# Altium integrated library coilgun.IntLib: 8 symbols
Pins are listed as number, name and electrical type; pins without a type are passive.

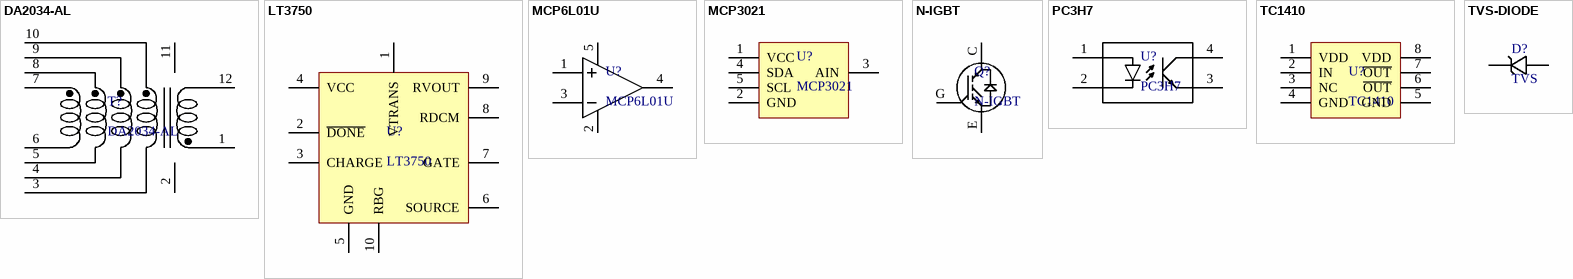
[diagram p0: symbols DA2034-AL to TVS-DIODE]

## DA2034-AL
designator T?
footprint DA2034-AL
pins: 1, 2, 3, 4, 5, 6, 7, 8, 9, 10, 11, 12

## LT3750
designator U?
footprint MSOP-10
pins: 1 VTRANS, 2 ~{DONE}, 3 CHARGE, 4 VCC, 5 GND, 6 SOURCE, 7 GATE, 8 RDCM, 9 RVOUT, 10 RBG

## MCP6L01U
designator U?
footprint SOT23-5
pins: 1, 2, 3, 4, 5

## MCP3021
designator U?
footprint SOT23-5
pins: 1 VCC, 2 GND, 3 AIN, 4 SDA, 5 SCL

## N-IGBT
designator Q?
footprint TO-247
pins: C, E, G

## PC3H7
designator U?
footprint SOIC127P680X230-4M (SOIC, 4-Leads, Body 2,60x4,40mm, Pitch 1,27mm, IPC Low Density)
pins: 1, 2, 3, 4

## TC1410
designator U?
footprint SO8
pins: 1 VDD, 2 IN, 3 NC, 4 GND, 5 GND, 6 ~{OUT}, 7 ~{OUT}, 8 VDD

## TVS-DIODE
designator D?, comment TVS
footprint DO-214AB
pins: 1, 2